# EAGLE library part MXR9500 (library omc)
Memsic MXR9500 - Tri Axis Accelerometer - 2.7V to 3.6V single supply - supply ratiometric operation - +/- 1.5g full-scale range - 500mV/g sensitivity @3.0V - based on heat convection, no solid proof mass - 50,000 g shock survival rating
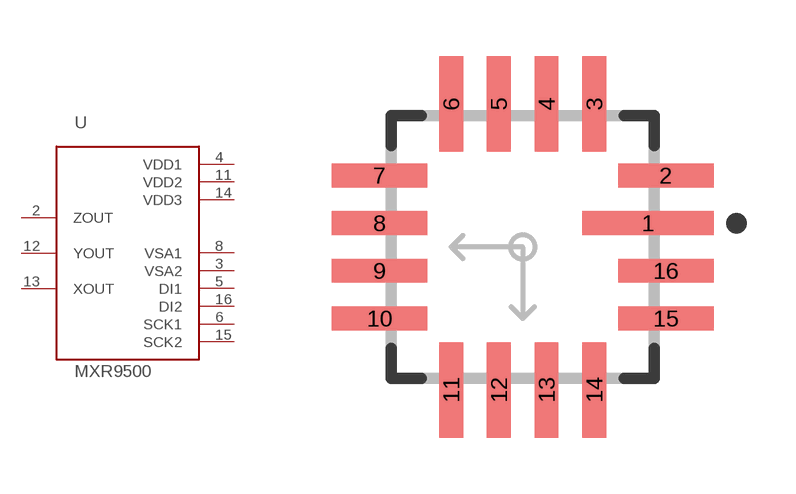
[diagram p6: symbol with the pads of MXR9500-LCC16; footprint MXR9500-LCC16]

Designator prefix U

## MXR9500  [MXR9500-LCC16]
2  ZOUT  out
3  VSA2  pwr
4  VDD1  pwr
5  DI1  in
6  SCK1  in
8  VSA1  pwr
11  VDD2  pwr
12  YOUT  out
13  XOUT  out
14  VDD3  pwr
15  SCK2  in
16  DI2  in

## Footprint MXR9500-LCC16 (pad centres in mm)
smd 3.492 x 0.635: 1 3.334,0.635
smd 2.54 x 0.635: 2 3.81,1.905; 7 -3.81,1.905; 8 -3.81,0.635; 9 -3.81,-0.635; 10 -3.81,-1.905; 15 3.81,-1.905; 16 3.81,-0.635
smd 0.635 x 2.54: 3 1.905,3.81; 4 0.635,3.81; 5 -0.635,3.81; 6 -1.905,3.81; 11 -1.905,-3.81; 12 -0.635,-3.81; 13 0.635,-3.81; 14 1.905,-3.81